# Altium schematic symbol library GBA.SchLib: 53 symbols (part 1 of 2)
Pins are listed as number, name and electrical type; pins without a type are passive.

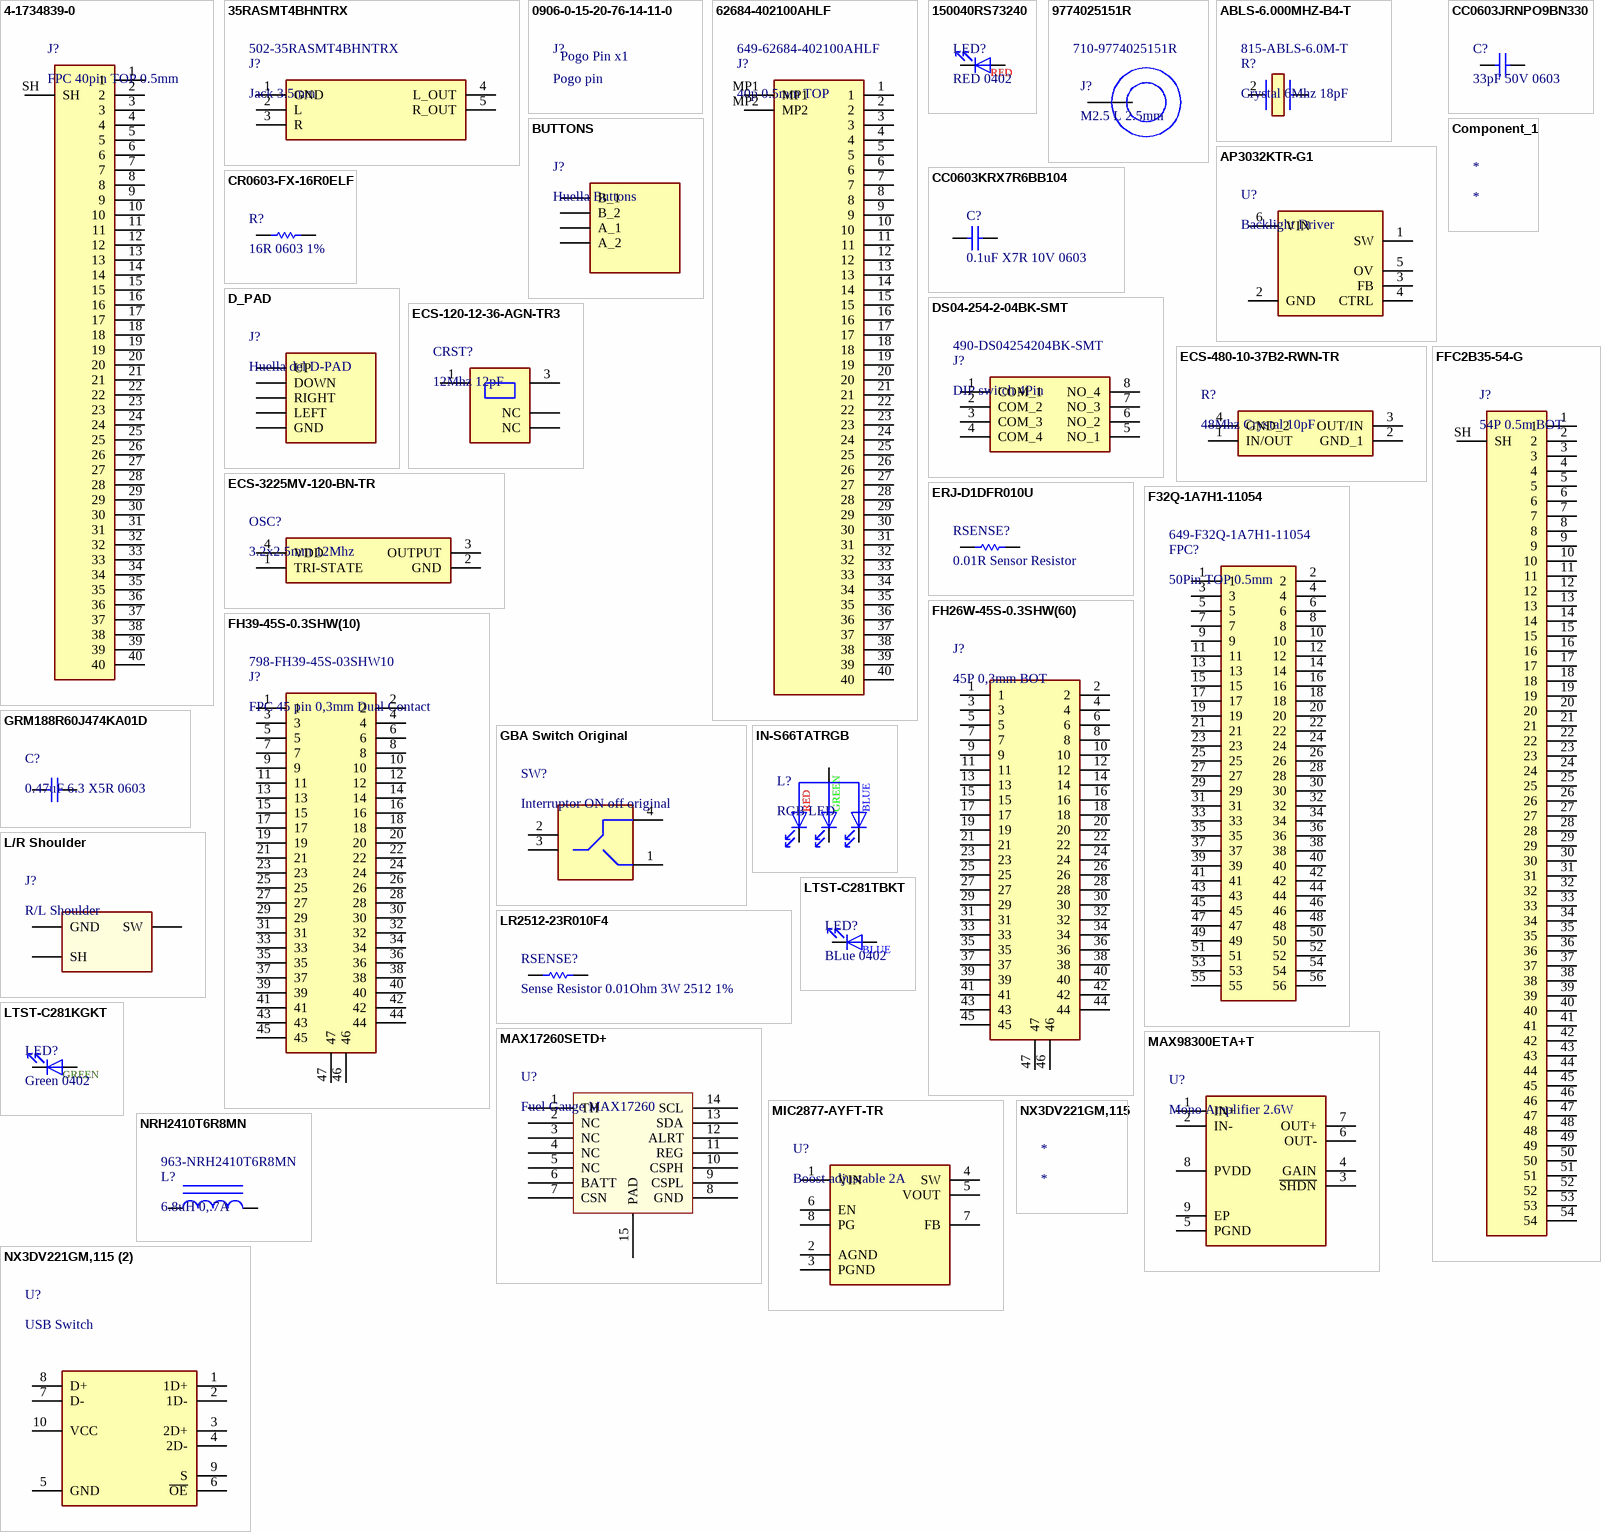
[diagram p0: symbols 4-1734839-0 to NX3DV221GM,115 (2)]

## 4-1734839-0
designator J?, comment FPC 40pin TOP 0.5mm
Conn FPC Connector SKT 40 POS 0.5mm Solder RA SMD Tape Mounted (Alt: 4-1734839-0); Manufacturer: TE Connectivity; Supplier 1: Mouser; Manufacturer Part Number: 4-1734839-0; RoHS: Yes; Category: FFC / FPC; Stock 1: 26676; Pricing 1: 1=1,12000, 10=0,92000, 50=0,92000, 100=0,80300, 500=0,69000, 1000=0,61300, 2000=0,55500, 4000=0,53600, 10000=0,50900, 24000=0,49700 (USD); ComponentLink1URL: https://datasheet.ciiva.com/10365/eng-ds-1-1773440-6-0506-10365785.pdf?src-supplier=Avnet; ComponentLink1Description: https://datasheet.ciiva.com/10365/eng-ds-1-1773440-6-0506-10365785.pdf?src-supplier=Avnet; ComponentLink2URL: https://datasheet.ciiva.com/8066/1652225-8066874.pdf?src-supplier=Element14; ComponentLink2Description: https://datasheet.ciiva.com/8066/1652225-8066874.pdf?src-supplier=Element14; ComponentLink3URL: https://datasheet.ciiva.com/669/eng-cd-1734839-c-c-1734839-669160.pdf?src-supplier=Digi-Key; ComponentLink3Description: https://datasheet.ciiva.com/669/eng-cd-1734839-c-c-1734839-669160.pdf?src-supplier=Digi-Key; ComponentLink4URL: https://datasheet.ciiva.com/669/eng-cd-1734839-c-c-1734839-669161.pdf?src-supplier=Digi-Key; ComponentLink4Description: https://datasheet.ciiva.com/669/eng-cd-1734839-c-c-1734839-669161.pdf?src-supplier=Digi-Key; ComponentLink5URL: https://datasheet.ciiva.com/669/eng-cd-1734839-c-c-1734839-669162.pdf?src-supplier=Digi-Key; ComponentLink5Description: https://datasheet.ciiva.com/669/eng-cd-1734839-c-c-1734839-669162.pdf?src-supplier=Digi-Key; Supplier Part Number 1: 571-4-1734839-0
footprint 4-1734839-0
pins: 1, 2, 3, 4, 5, 6, 7, 8, 9, 10, 11, 12, 13, 14, 15, 16, 17, 18, 19, 20, 21, 22, 23, 24, 25, 26, 27, 28, 29, 30, 31, 32, 33, 34, 35, 36, 37, 38, 39, 40, SH

## 35RASMT4BHNTRX
designator J?, comment Jack 3.5mm  Supplier Part Number 1: 502-35RASMT4BHNTRX
SWC 35RASMT4BHNTRX Connectors > Audio - Video > Jacks (Audio) > 1/4 Audio Jacks; Manufacturer: Switchcraft; Supplier 1: Mouser; Manufacturer Part Number: 35RASMT4BHNTRX; RoHS: Yes; Category: Circular Connectors; Stock 1: 5330; Pricing 1: 1=1,60000, 10=1,31000, 50=1,31000, 100=1,25000, 250=1,13000, 500=1,04000, 1000=0,95900, 10000=0,95900 (USD); ComponentLink1URL: https://datasheet.ciiva.com/390/35rasmt4bhntrx-cd-390487.pdf?src-supplier=Digi-Key; ComponentLink1Description: https://datasheet.ciiva.com/390/35rasmt4bhntrx-cd-390487.pdf?src-supplier=Digi-Key; ComponentLink2URL: https://datasheet.ciiva.com/11720/0900766b80e28029-11720622.pdf?src-supplier=RSComponents; ComponentLink2Description: https://datasheet.ciiva.com/11720/0900766b80e28029-11720622.pdf?src-supplier=RSComponents; ComponentLink3URL: https://datasheet.ciiva.com/390/35rasmt4bhntrx-cd-390488.pdf?src-supplier=Digi-Key; ComponentLink3Description: https://datasheet.ciiva.com/390/35rasmt4bhntrx-cd-390488.pdf?src-supplier=Digi-Key; ComponentLink4URL: https://datasheet.ciiva.com/390/35rasmt4bhntrx-cd-390489.pdf?src-supplier=Digi-Key; ComponentLink4Description: https://datasheet.ciiva.com/390/35rasmt4bhntrx-cd-390489.pdf?src-supplier=Digi-Key
footprint 35RASMT4BHNTRX
pins: 1 GND, 2 L, 3 R, 4 L_OUT, 5 R_OUT

## 0906-0-15-20-76-14-11-0
designator J?, comment Pogo pin  (mechanical)
0906 Series Spring-Loaded Pin Shell Material=Brass Alloy; Manufacturer: Mill-Max; Manufacturer Part Number: 0906-0-15-20-76-14-11-0; Supplier 1: Mouser; RoHS: Yes; Category: Connectors; Stock 1: 63461; Pricing 1: 1=0,56000, 10=0,42300, 50=0,42300, 100=0,37000, 500=0,35200, 1000=0,29000, 2500=0,25500, 10000=0,23400, 30000=0,22800, 50000=0,22000 (USD); ComponentLink1URL: https://datasheet.ciiva.com/16427/0906-0-15-20-76-14-11-0-16427148.pdf?src-supplier=Future+Electronics; ComponentLink1Description: https://datasheet.ciiva.com/16427/0906-0-15-20-76-14-11-0-16427148.pdf?src-supplier=Future+Electronics; ComponentLink2URL: https://datasheet.ciiva.com/16886/70206242-16886092.pdf?src-supplier=Allied+Electronics; ComponentLink2Description: https://datasheet.ciiva.com/16886/70206242-16886092.pdf?src-supplier=Allied+Electronics; Supplier Part Number 1: 575-906015
text: Pogo Pin x1

## 62684-402100AHLF
designator J?, comment 40p 0.5mm TOP  Supplier Part Number 1: 649-62684-402100AHLF
Conn FFC/FPC Connector SKT 40 POS 0.5mm Solder RA SMD T/R; Manufacturer: Amphenol ICC / FCI; Manufacturer Part Number: 62684-402100AHLF; Supplier 1: Mouser; RoHS: Yes; Category: FFC / FPC; Stock 1: 272; Pricing 1: 1=0,68000, 10=0,56600, 50=0,56600, 100=0,48700, 1000=0,34900, 10000=0,30600 (USD); ComponentLink1URL: https://datasheet.ciiva.com/18492/62684-18492024.pdf?src-supplier=Digi-Key; ComponentLink1Description: https://datasheet.ciiva.com/18492/62684-18492024.pdf?src-supplier=Digi-Key; ComponentLink2URL: https://datasheet.ciiva.com/15330/62684-15330505.pdf?src-supplier=Mouser; ComponentLink2Description: https://datasheet.ciiva.com/15330/62684-15330505.pdf?src-supplier=Mouser
footprint 62684402100AHLF
pins: 1, 2, 3, 4, 5, 6, 7, 8, 9, 10, 11, 12, 13, 14, 15, 16, 17, 18, 19, 20, 21, 22, 23, 24, 25, 26, 27, 28, 29, 30, 31, 32, 33, 34, 35, 36, 37, 38, 39, 40, MP1, MP2

## 150040RS73240
designator LED?, comment RED 0402
Led Red Clear 0402 SMD; Manufacturer: Wurth Electronics; Manufacturer Part Number: 150040RS73240; Lens Color: Colorless; Lens Style: Flat; Luminous Intensity: 100mcd; Forward Voltage: 2V; Test Current: 20mA; Viewing Angle: 120°; Dominant Wavelength: 625nm; Lens Size: 0.5mm; Supplier 1: Mouser; RoHS: Yes; Category: LEDs; Stock 1: 82489; Pricing 1: 1=0,32000, 10=0,27100, 50=0,27100, 100=0,24400, 1000=0,19100, 10000=0,16400 (USD); Mount: Surface Mount; Case/Package: 0402; Color: Red; Case Code (Imperial): 0402; Case Code (Metric): 1005; Packaging: Tape and Reel; Lens Transparency: Clear; Length: 1mm; Width: 0.5mm; Height: 0.5mm; RoHS Compliant: Yes; ComponentLink1URL: http://www.farnell.com/datasheets/2621636.pdf?src-supplier=Farnell; ComponentLink1Description: http://www.farnell.com/datasheets/2621636.pdf?src-supplier=Farnell; ComponentLink2URL: http://www.farnell.com/datasheets/2621636.pdf?src-supplier=Element14; ComponentLink2Description: http://www.farnell.com/datasheets/2621636.pdf?src-supplier=Element14; ComponentLink3URL: https://katalog.we-online.de/pbs/datasheet/150040RS73240.pdf?src-supplier=Digi-Key; ComponentLink3Description: https://katalog.we-online.de/pbs/datasheet/150040RS73240.pdf?src-supplier=Digi-Key; ComponentLink4URL: http://www.farnell.com/datasheets/2621636.pdf?src-supplier=Newark; ComponentLink4Description: http://www.farnell.com/datasheets/2621636.pdf?src-supplier=Newark; Supplier Part Number 1: 710-150040RS73240
footprint LED 0402
pins: 1 K, 2 A
text: RED

## 9774025151R
designator J?, comment M2.5 L 2.5mm  Supplier Part Number 1: 710-9774025151R
Spacer Material: Steel Mounting: SMT Series: WA-SMSI Thread D: M2.5; Manufacturer: Wurth Electronics; Manufacturer Part Number: 9774025151R; Plating: Tin; Threaded/Unthreaded: Threaded; Outside Diameter: 0.201inch; Supplier 1: Mouser; RoHS: Yes; Category: Spacers, Standoffs; Stock 1: 24227; Pricing 1: 1=1,27000, 10=1,22000, 50=1,07000, 100=0,97900, 500=0,90700, 1000=0,90700, 10000=0,90700 (USD); Material: Steel; Length: 0.154inch; REACH SVHC: Unknown; ComponentLink1URL: http://www.farnell.com/datasheets/1960364.pdf?src-supplier=Farnell; ComponentLink1Description: http://www.farnell.com/datasheets/1960364.pdf?src-supplier=Farnell; ComponentLink2URL: http://www.mouser.com/ds/2/445/9774025151R-611453.pdf?src-supplier=Mouser; ComponentLink2Description: http://www.mouser.com/ds/2/445/9774025151R-611453.pdf?src-supplier=Mouser; ComponentLink3URL: https://media.digikey.com/pdf/Data%20Sheets/Wurth%20Electronics%20PDFs/WA-SMSx_Performance_Flyer.pdf?src-supplier=Digi-Key; ComponentLink3Description: https://media.digikey.com/pdf/Data%20Sheets/Wurth%20Electronics%20PDFs/WA-SMSx_Performance_Flyer.pdf?src-supplier=Digi-Key; ComponentLink4URL: http://www.farnell.com/datasheets/1960364.pdf?src-supplier=Element14; ComponentLink4Description: http://www.farnell.com/datasheets/1960364.pdf?src-supplier=Element14; ComponentLink5URL: http://www.farnell.com/datasheets/1960364.pdf?src-supplier=Newark; ComponentLink5Description: http://www.farnell.com/datasheets/1960364.pdf?src-supplier=Newark
pins: 1

## ABLS-6.000MHZ-B4-T
designator R?, comment Crystal 6Mhz 18pF  Supplier Part Number 1: 815-ABLS-6.0M-T
Crystal 6MHz ±30ppm (Tol) ±50ppm (Stability) 18pF FUND 100Ohm 2-Pin HC-49/US SMD T/R; Manufacturer: Abracon; Manufacturer Part Number: ABLS-6.000MHZ-B4-T; ESR (Equivalent Series Resistance): 100R; Supplier 1: Mouser; RoHS: Yes; Category: Crystals; Stock 1: 4366; Pricing 1: 1=0,29000, 10=0,23800, 50=0,23800, 100=0,19200, 1000=0,15600, 10000=0,14200 (USD); Mount: Surface Mount; Case/Package: SMD/SMT; Min Operating Temperature: -20°C; Max Operating Temperature: 70°C; Frequency: 6MHz; Load Capacitance: 18pF; Packaging: Tape and Reel; Package Quantity: 1000; Tolerance: 30ppm; Frequency Tolerance: 30ppm; Frequency Stability: 50ppm; Termination: SMD/SMT; Series Resistance: 100R; Length: 11.4mm; Width: 4.7mm; Height: 0.165inch; Depth: 4.7mm; Radiation Hardening: No; REACH SVHC: Yes; Lead Free: Lead Free; ComponentLink1URL: https://datasheet.ciiva.com/15116/getdatasheetpartid-722413-15116851.pdf?src-supplier=Verical; ComponentLink1Description: https://datasheet.ciiva.com/15116/getdatasheetpartid-722413-15116851.pdf?src-supplier=Verical; ComponentLink2URL: https://datasheet.ciiva.com/16378/abls-16378057.pdf?src-supplier=Future+Electronics; ComponentLink2Description: https://datasheet.ciiva.com/16378/abls-16378057.pdf?src-supplier=Future+Electronics; ComponentLink3URL: https://datasheet.ciiva.com/854/abls-854139.pdf?src-supplier=Digi-Key; ComponentLink3Description: https://datasheet.ciiva.com/854/abls-854139.pdf?src-supplier=Digi-Key; ComponentLink4URL: https://datasheet.ciiva.com/854/abls-854140.pdf?src-supplier=Digi-Key; ComponentLink4Description: https://datasheet.ciiva.com/854/abls-854140.pdf?src-supplier=Digi-Key; ComponentLink5URL: https://datasheet.ciiva.com/854/abls-854138.pdf?src-supplier=Digi-Key; ComponentLink5Description: https://datasheet.ciiva.com/854/abls-854138.pdf?src-supplier=Digi-Key; ComponentLink6URL: https://datasheet.ciiva.com/3175/abls-3175436.pdf?src-supplier=Avnet; ComponentLink6Description: https://datasheet.ciiva.com/3175/abls-3175436.pdf?src-supplier=Avnet
footprint ABLS6000MHZB4T
pins: 2 CRYSTAL_2, ?1

## AP3032KTR-G1
designator U?, comment Backlight Driver
AP3032 Series 9 V 1.3 MHz Surface Mount White LED Step-Up Converter - SOT-23-6; Manufacturer: Diodes; Manufacturer Part Number: AP3032KTR-G1; Number of Outputs: 1; Frequency: 1MHz; Max Supply Voltage: 9V; Output Current per Channel: 1.4A; Min Input Voltage: 2.7V; Max Output Voltage: 38V; Switching Frequency: 750kHz; Topology: Boost; Dimming: PWM; Supplier 1: Mouser; RoHS: Yes; Category: LED Drivers; Stock 1: 35875; Pricing 1: 1=0,41000, 10=0,33600, 50=0,33600, 100=0,20700, 500=0,17200, 1000=0,12900, 3000=0,11700, 9000=0,10300, 10000=0,10300, 24000=0,09700 (USD); Mount: Surface Mount; Case/Package: SOT-23-6; Number of Pins: 6; Weight: 0.000529oz; Min Operating Temperature: -40°C; Max Operating Temperature: 85°C; Package Quantity: 3000; Packaging: Tape and Reel; Max Input Voltage: 9V; Number of Channels: 1; Lead Free: Lead Free; RoHS Compliant: Yes; ComponentLink1URL: https://datasheet.ciiva.com/29602/ap3032-29602682.pdf?src-supplier=Digi-Key; ComponentLink1Description: https://datasheet.ciiva.com/29602/ap3032-29602682.pdf?src-supplier=Digi-Key; ComponentLink2URL: https://datasheet.ciiva.com/29603/ap3032-29603101.pdf?src-supplier=Digi-Key; ComponentLink2Description: https://datasheet.ciiva.com/29603/ap3032-29603101.pdf?src-supplier=Digi-Key; ComponentLink3URL: https://datasheet.ciiva.com/29603/ap3032-29603100.pdf?src-supplier=Digi-Key; ComponentLink3Description: https://datasheet.ciiva.com/29603/ap3032-29603100.pdf?src-supplier=Digi-Key; Supplier Part Number 1: 621-AP3032KTR-G1
footprint SOT95P280X145-6N
pins: 1 SW, 2 GND, 3 FB, 4 CTRL, 5 OV, 6 VIN

## BUTTONS
designator J?, comment Huella Buttons  (no BOM)
footprint AB_BUTTON
pins: A_1, A_2, B_1, B_2

## CC0603JRNPO9BN330
designator C?, comment 33pF 50V 0603
0603 33 pF 50 V ±5 % Tolerance NP0 SMT Multilayer Ceramic Capacitor; Manufacturer: Yageo; Manufacturer Part Number: CC0603JRNPO9BN330; Tolerance: 5%; Dielectric: C0G; Temperature Coefficient: 30ppm/°C; Insulation Resistance: 100GR; Supplier 1: Mouser; RoHS: Yes; Category: Ceramic Capacitors; Stock 1: 62339; Pricing 1: 1=0,10000, 10=0,02400, 50=0,02400, 100=0,01900, 500=0,01700, 1000=0,01300, 4000=0,01000, 10000=0,01000 (USD); Mount: Surface Mount; Case/Package: 0603; Number of Pins: 2; Case Code (Metric): 1608; Case Code (Imperial): 0603; Dielectric Material: Ceramic; Min Operating Temperature: -55°C; Max Operating Temperature: 125°C; Capacitance: 33pF; Packaging: Tape and Reel; Voltage Rating: 50V; Package Quantity: 1; Voltage Rating (DC): 50V; Termination: SMD/SMT; Resistor Type: Ceramic; Voltage: 50V; Series: CC; Length: 1.6mm; Width: 0.031inch; Height: 0.8mm; Thickness: 0.035inch; Depth: 0.8mm; Radiation Hardening: No; REACH SVHC: No SVHC; Lead Free: Lead Free; RoHS Compliant: Yes; ComponentLink1URL: https://datasheet.ciiva.com/11786/0900766b8079c870-11786082.pdf?src-supplier=RSComponents; ComponentLink1Description: https://datasheet.ciiva.com/11786/0900766b8079c870-11786082.pdf?src-supplier=RSComponents; ComponentLink2URL: https://datasheet.ciiva.com/26862/getdatasheetpartid-403532-26862767.pdf?src-supplier=Verical; ComponentLink2Description: https://datasheet.ciiva.com/26862/getdatasheetpartid-403532-26862767.pdf?src-supplier=Verical; ComponentLink3URL: https://datasheet.ciiva.com/8033/1443161-8033735.pdf?src-supplier=Element14; ComponentLink3Description: https://datasheet.ciiva.com/8033/1443161-8033735.pdf?src-supplier=Element14; ComponentLink4URL: https://datasheet.ciiva.com/7978/1443161-7978142.pdf?src-supplier=Element14; ComponentLink4Description: https://datasheet.ciiva.com/7978/1443161-7978142.pdf?src-supplier=Element14; ComponentLink5URL: https://datasheet.ciiva.com/46430/1835847-46430155.pdf?src-supplier=Element14; ComponentLink5Description: https://datasheet.ciiva.com/46430/1835847-46430155.pdf?src-supplier=Element14; ComponentLink6URL: https://datasheet.ciiva.com/144/mlccorderingcode-144644.pdf?src-supplier=Digi-Key; ComponentLink6Description: https://datasheet.ciiva.com/144/mlccorderingcode-144644.pdf?src-supplier=Digi-Key; ComponentLink7URL: https://datasheet.ciiva.com/144/mlccorderingcode-144643.pdf?src-supplier=Digi-Key; ComponentLink7Description: https://datasheet.ciiva.com/144/mlccorderingcode-144643.pdf?src-supplier=Digi-Key; ComponentLink8URL: https://datasheet.ciiva.com/144/mlccorderingcode-144645.pdf?src-supplier=Digi-Key; ComponentLink8Description: https://datasheet.ciiva.com/144/mlccorderingcode-144645.pdf?src-supplier=Digi-Key; ComponentLink9URL: https://datasheet.ciiva.com/5426/upy-gp-np0-16v-to-50v-8-5426614.pdf?src-supplier=Mouser; ComponentLink9Description: https://datasheet.ciiva.com/5426/upy-gp-np0-16v-to-50v-8-5426614.pdf?src-supplier=Mouser; ComponentLink10URL: https://datasheet.ciiva.com/8033/1372269-8033734.pdf?src-supplier=Element14; ComponentLink10Description: https://datasheet.ciiva.com/8033/1372269-8033734.pdf?src-supplier=Element14; ComponentLink11URL: https://datasheet.ciiva.com/11464/upy-gp-np0-16v-to-50v-8-11464730.pdf?src-supplier=Avnet; ComponentLink11Description: https://datasheet.ciiva.com/11464/upy-gp-np0-16v-to-50v-8-11464730.pdf?src-supplier=Avnet; Supplier Part Number 1: 603-C0603JRNPO9BN330
footprint C 0603/1608
pins: 1, 2

## CC0603KRX7R6BB104
designator C?, comment 0.1uF X7R 10V 0603
Multilayer Ceramic Capacitors MLCC - SMD/SMT 100nF 10V X7R 10%; Manufacturer: Yageo; Manufacturer Part Number: CC0603KRX7R6BB104; Supplier 1: Mouser; Stock 1: 15698; Pricing 1: 1=0.12, 10=0.06, 50=0.06, 100=0.027, 1000=0.022, 10000=0.016 (USD); Mount: Surface Mount; Case/Package: 0603; Weight: 7.1E-05oz; Case Code (Imperial): 0603; Case Code (Metric): 1608; Min Operating Temperature: -55°C; Max Operating Temperature: 125°C; Capacitance: 100nF; Tolerance: 10%; Dielectric: X7R; Voltage Rating: 10V; Voltage Rating (DC): 10V; Packaging: Tape and Reel; Termination: SMD/SMT; Composition: Ceramic; Length: 1.6mm; Height: 0.8mm; Width: 0.8mm; Thickness: 0.035inch; Depth: 0.8mm; Radiation Hardening: No; Lead Free: Lead Free; Halogen Free: Halogen Free; ComponentLink1URL: http://www.yageo.com/documents/recent/UPY-GPHC_X7R_6.3V-to-50V_8.pdf; ComponentLink1Description: http://www.yageo.com/documents/recent/UPY-GPHC_X7R_6.3V-to-50V_8.pdf; Supplier Part Number 1: 603-CC603KRX7R6BB104
footprint C 0603/1608
pins: 1, 2

## Component_1
designator *

## CR0603-FX-16R0ELF
designator R?, comment 16R 0603 1%
Res Thick Film 0603 16 Ohm 1% 1/10W ±100ppm/°C Molded SMD SMD Paper Tape on Plastic Reel; Manufacturer: Bourns; Manufacturer Part Number: CR0603-FX-16R0ELF; Power Rating: 100mW; Voltage Rating: 50V; Supplier 1: Mouser; RoHS: Yes; Category: Chip SMD Resistors; Stock 1: 13336; Pricing 1: 1=0,10000, 10=0,03400, 50=0,03400, 100=0,01400, 1000=0,00700, 10000=0,00400 (USD); Mount: Surface Mount; Case/Package: 0603; Case Code (Imperial): 0603; Case Code (Metric): 1608; Contact Plating: Tin; Min Operating Temperature: -55°C; Max Operating Temperature: 155°C; Packaging: Tape and Reel; Package Quantity: 5000; Resistance: 16R; Tolerance: 1%; Resistor Type: Thick Film; Termination: SMD/SMT; Number of Terminations: 2; Temperature Coefficient: 100ppm/°C; Max Power Dissipation: 100mW; Features: Moisture Resistant; Series: CR0603; Construction: Rectangular; Length: 1.6mm; Width: 0.8mm; Height: 0.022inch; Depth: 0.8mm; Thickness: 457um; Radiation Hardening: No; Military Standard: Not; RoHS Compliant: Yes; ComponentLink1URL: https://datasheet.ciiva.com/9122/chpreztr-9122055.pdf?src-supplier=Avnet; ComponentLink1Description: https://datasheet.ciiva.com/9122/chpreztr-9122055.pdf?src-supplier=Avnet; Supplier Part Number 1: 652-CR0603FX-16R0ELF
footprint R 0603/1608
pins: 1, 2

## D_PAD
designator J?, comment Huella del D-PAD  (no BOM)
footprint D-PAD
pins: DOWN, GND, LEFT, RIGHT, UP

## DS04-254-2-04BK-SMT
designator J?, comment DIP switch 4Pin  Supplier Part Number 1: 490-DS04254204BK-SMT
Switch DIP OFF ON SPST 4 Flat Slide 0.025A 24VDC Gull Wing 2.54mm SMD Tube; Manufacturer: CUI Devices; Manufacturer Part Number: DS04-254-2-04BK-SMT; Supplier 1: Mouser; RoHS: Yes; Category: DIP Switches; Stock 1: 3281; Pricing 1: 1=0,61000, 10=0,58400, 50=0,49600, 100=0,49600, 1000=0,36700, 10000=0,32200 (USD)
footprint SOP254P990X430-8N
pins: 1 COM_1, 2 COM_2, 3 COM_3, 4 COM_4, 5 NO_1, 6 NO_2, 7 NO_3, 8 NO_4

## ECS-120-12-36-AGN-TR3
designator CRST?, comment 12Mhz 12pF
Crystal 12.0000MHZ 12PF SMD; Manufacturer: ECS International; Manufacturer Part Number: ECS-120-12-36-AGN-TR3; Supplier 1: Mouser; RoHS: No; Category: Uncategorized; Stock 1: 18886; Pricing 1: 1=0,37000, 10=0,31300, 50=0,31300, 100=0,25000, 1000=0,20000, 10000=0,18100 (USD); Supplier Part Number 1: 520-120-12-36AGN-TR3
footprint SMD 2.5x2mm Crystal
pins: 1, 2 NC, 3, 4 NC

## ECS-480-10-37B2-RWN-TR
designator R?, comment 48Mhz Crystal 10pF
Crystal 48 Mhz 10PF SMD; Manufacturer: ECS International; Manufacturer Part Number: ECS-480-10-37B2-RWN-TR; Supplier 1: Mouser; RoHS: No; Category: Uncategorized; Stock 1: 8707; Pricing 1: 1=0,45000, 10=0,37500, 50=0,37500, 100=0,30000, 500=0,28500, 1000=0,24000, 3000=0,22400, 6000=0,21700, 10000=0,21700 (USD); Supplier Part Number 1: 520-480-10-37B2RWNTR
footprint ECS4801037B2RWNTR (Footprint not found)
pins: 1 IN/OUT, 2 GND_1, 3 OUT/IN, 4 GND_2

## ECS-3225MV-120-BN-TR
designator OSC?, comment 3.2x2.5mm 12Mhz
Oscillator XO 12MHz ±50ppm 15pF HCMOS 55% 1.8V/2.5V/3.3V 4-Pin Mini-CSMD T/R; Manufacturer: ECS International; Manufacturer Part Number: ECS-3225MV-120-BN-TR; Max Supply Current: 4mA; Supplier 1: Mouser; RoHS: Yes; Category: Oscillators; Stock 1: 3580; Pricing 1: 1=1,21, 10=0,999, 50=0,999, 100=0,883, 1000=0,688, 10000=0,627 (USD); Mount: Surface Mount; Case/Package: SMD/SMT; Min Operating Temperature: -40°C; Max Operating Temperature: 85°C; Packaging: Cut Tape; Frequency: 12MHz; Frequency Stability: 50ppm; Series: ECS-3225MV; ComponentLink1URL: https://www.ecsxtal.com/store/pdf/ECS-3225MV.pdf?src-supplier=Digi-Key; ComponentLink1Description: https://www.ecsxtal.com/store/pdf/ECS-3225MV.pdf?src-supplier=Digi-Key; Supplier Part Number 1: 520-3225MV-120-BNT
footprint ECS3225MV120BNTR
pins: 1 TRI-STATE, 2 GND, 3 OUTPUT, 4 VDD

## ERJ-D1DFR010U
designator RSENSE?, comment 0.01R Sensor Resistor
Res Thick Film 1020 0.01 Ohm 1% 2W ±100ppm/°C Wide Terminal SMD Automotive T/R; Manufacturer: Panasonic; Manufacturer Part Number: ERJ-D1DFR010U; Supplier 1: Mouser; RoHS: No; Category: Chip SMD Resistors; Stock 1: 6843; Pricing 1: 1=0,86000, 10=0,75700, 50=0,75700, 100=0,49500, 1000=0,37700, 10000=0,35400 (USD); Supplier Part Number 1: 667-ERJ-D1DFR010U
footprint ERJD1
pins: 1, 2

## F32Q-1A7H1-11054
designator FPC?, comment 50Pin TOP 0.5mm  Supplier Part Number 1: 649-F32Q-1A7H1-11054
FPC/FFC Connector Socket 54 Position 0.5mm Top Contact Solder Right Angle Surface Mount T/R; Manufacturer: Amphenol ICC / FCI; Manufacturer Part Number: F32Q-1A7H1-11054; Supplier 1: Mouser; RoHS: No; Category: FFC / FPC; Stock 1: 5116; Pricing 1: 1=1,34, 10=1,06, 50=1,06, 100=0,919, 1000=0,627, 10000=0,597 (USD)
footprint XF2M54151AH
pins: 1, 2, 3, 4, 5, 6, 7, 8, 9, 10, 11, 12, 13, 14, 15, 16, 17, 18, 19, 20, 21, 22, 23, 24, 25, 26, 27, 28, 29, 30, 31, 32, 33, 34, 35, 36, 37, 38, 39, 40, 41, 42, 43, 44, 45, 46, 47, 48, 49, 50, 51, 52, 53, 54, 55, 56

## FFC2B35-54-G
designator J?, comment 54P 0.5m BOT
54W, 0.5MM Ffc Con, R/a, Bottom Con; Manufacturer: Global Connector Technology; Manufacturer Part Number: FFC2B35-54-G; Supplier 1: Mouser; RoHS: No; Supplier Part Number 1: 640-FFC2B35-54-G
footprint FFC2B35-54-G
pins: 1, 2, 3, 4, 5, 6, 7, 8, 9, 10, 11, 12, 13, 14, 15, 16, 17, 18, 19, 20, 21, 22, 23, 24, 25, 26, 27, 28, 29, 30, 31, 32, 33, 34, 35, 36, 37, 38, 39, 40, 41, 42, 43, 44, 45, 46, 47, 48, 49, 50, 51, 52, 53, 54, SH

## FH26W-45S-0.3SHW(60)
designator J?, comment 45P 0,3mm BOT
FFC FPC Connectors Horizontal Mounting Angle Light Brown 0.3 mm - Pitch 45 Positions; Manufacturer: Hirose; Manufacturer Part Number: FH26W-45S-0.3SHW(60); Supplier 1: Mouser; RoHS: Yes; Category: FFC / FPC; Stock 1: 44650; Pricing 1: 1=2,29000, 10=1,92000, 50=1,92000, 100=1,79000, 1000=1,28000, 10000=1,13000 (USD); ComponentLink1URL: http://www.farnell.com/datasheets/2691081.pdf?src-supplier=Farnell; ComponentLink1Description: http://www.farnell.com/datasheets/2691081.pdf?src-supplier=Farnell; ComponentLink2URL: https://www.hirose.com/product/document?clcode=CL0580-2401-1-60&amp;productname=FH26W-13S-0.3SHW(60)&amp;series=FH26&amp;documenttype=Catalog&amp;lang=en&amp;documentid=D49355_en&src-supplier=Digi-Key; ComponentLink2Description: https://www.hirose.com/product/document?clcode=CL0580-2401-1-60&amp;productname=FH26W-13S-0.3SHW(60)&amp;series=FH26&amp;documenttype=Catalog&amp;lang=en&amp;documentid=D49355_en&src-supplier=Digi-Key; ComponentLink3URL: https://www.hirose.com/product/en/download_file/key_name/FH26W-61S-0.3SHW%2860%29/category/Drawing%20(2D)/doc_file_id/43329/?file_category_id=6&item_id=05802418460&is_series=&src-supplier=Digi-Key; ComponentLink3Description: https://www.hirose.com/product/en/download_file/key_name/FH26W-61S-0.3SHW%2860%29/category/Drawing%20(2D)/doc_file_id/43329/?file_category_id=6&item_id=05802418460&is_series=&src-supplier=Digi-Key; ComponentLink4URL: https://www.hirose.com/product/en/download_file/key_name/FH26/category/Catalog/doc_file_id/49355/?file_category_id=4&item_id=298&is_series=1&src-supplier=Digi-Key; ComponentLink4Description: https://www.hirose.com/product/en/download_file/key_name/FH26/category/Catalog/doc_file_id/49355/?file_category_id=4&item_id=298&is_series=1&src-supplier=Digi-Key; Supplier Part Number 1: 798-FH26W45S03SHW60
footprint FH26W45S03SHW60 (Footprint not found)
pins: 1, 2, 3, 4, 5, 6, 7, 8, 9, 10, 11, 12, 13, 14, 15, 16, 17, 18, 19, 20, 21, 22, 23, 24, 25, 26, 27, 28, 29, 30, 31, 32, 33, 34, 35, 36, 37, 38, 39, 40, 41, 42, 43, 44, 45, 46, 47

## FH39-45S-0.3SHW(10)
designator J?, comment FPC 45 pin 0,3mm Dual Contact  Supplier Part Number 1: 798-FH39-45S-03SHW10
FFC FPC Connectors Horizontal Mounting Angle Beige 0.3 mm - Pitch 45 Positions; Manufacturer: Hirose; Manufacturer Part Number: FH39-45S-0.3SHW(10); Supplier 1: Mouser; RoHS: Yes; Category: FFC / FPC; Stock 1: 11777; Pricing 1: 1=2,46000, 10=2,05000, 50=2,05000, 100=1,92000, 250=1,73000, 500=1,60000, 1000=1,37000, 2500=1,28000, 5000=1,21000, 10000=1,18000 (USD); ComponentLink1URL: https://datasheet.ciiva.com/5138/e58018001-27728-5138044.pdf?src-supplier=Mouser; ComponentLink1Description: https://datasheet.ciiva.com/5138/e58018001-27728-5138044.pdf?src-supplier=Mouser
footprint FH3945S03SHW10
pins: 1, 2, 3, 4, 5, 6, 7, 8, 9, 10, 11, 12, 13, 14, 15, 16, 17, 18, 19, 20, 21, 22, 23, 24, 25, 26, 27, 28, 29, 30, 31, 32, 33, 34, 35, 36, 37, 38, 39, 40, 41, 42, 43, 44, 45, 46, 47

## GBA Switch Original
designator SW?, comment Interruptor ON off original
Interruptor Original On OFF
footprint SWITCH_ORIGINAL
pins: 1, 2, 3, 4

## GRM188R60J474KA01D
designator C?, comment 0.47uF 6.3 X5R 0603
CAP CER 0.47UF 6.3V X5R 0603; Manufacturer: Murata Electronics North America; Manufacturer Part Number: GRM188R60J474KA01D; Tolerance: ±10%; Notification: Current market demand for these product types have resulted in fluctuating and extending lead times. Lead times may differ.; Supplier 1: Digi-Key; RoHS: RoHS Compliant; Category: Capacitors; Stock 1: 40000; Pricing 1: 1=0.13, 10=0.092, 100=0.0467, 500=0.032, 1000=0.0283 (GBP); Packaging: Cut Tape (CT); Part Status: Not For New Designs; Voltage - Rated: 6.3V; Temperature Coefficient: X5R; Operating Temperature: -55°C ~ 85°C; Features: -; Ratings: -; Applications: General Purpose; Mounting Type: Surface Mount, MLCC; Package / Case: 0603 (1608 Metric); Size / Dimension: 0.063" L x 0.031" W (1.60mm x 0.80mm); Height - Seated (Max): -; Thickness (Max): 0.035" (0.90mm); Lead Spacing: -; Lead Style: -; ComponentLink1URL: https://www.murata.com/~/media/webrenewal/support/library/catalog/products/capacitor/mlcc/c02e.ashx?la=en-us; ComponentLink1Description: https://www.murata.com/~/media/webrenewal/support/library/catalog/products/capacitor/mlcc/c02e.ashx?la=en-us; Supplier Part Number 1: 490-1548-1-ND
footprint C 0603/1608
pins: 1, 2

## IN-S66TATRGB
designator L?, comment RGB LED
LED Tri-Color Blue/Green/Red 470nm/530nm/630nm Automotive 4-Pin SMD T/R; Manufacturer: Inolux; Manufacturer Part Number: IN-S66TATRGB; Color: Blue,Green,Red; Lens Color: Clear; Lens Style: Flat; Element Configuration: Common Anode; Luminous Intensity: 110mcd; Forward Voltage: 3.2V; Test Current: 20mA; Viewing Angle: 120°; Dominant Wavelength: 468nm; Lens Size: 1.15mm; Supplier 1: Mouser; RoHS: No; Category: LEDs; Stock 1: 12490; Pricing 1: 1=0,42000, 10=0,26300, 50=0,26300, 100=0,15400, 1000=0,12100, 10000=0,09600 (USD); Mount: Surface Mount; Case/Package: 0606; Case Code (Imperial): 0606; Case Code (Metric): 1616; Packaging: Cut Tape; Lens Transparency: Clear; Length: 1.6mm; Width: 1.5mm; Height: 0.55mm; ComponentLink1URL: http://www.inolux-corp.com/datasheet/SMDLED/RGB%20Top%20View/IN-S66TATRGB_V1.0.pdf?src-supplier=Digi-Key; ComponentLink1Description: http://www.inolux-corp.com/datasheet/SMDLED/RGB%20Top%20View/IN-S66TATRGB_V1.0.pdf?src-supplier=Digi-Key; Supplier Part Number 1: 743-IN-S66TATRGB
footprint IN-S66TATRGB
pins: 1 K, 2 K, 3 A, 4 K
text: RED; GREEN; BLUE

## L/R Shoulder
designator J?, comment R/L Shoulder
Buy on Aliexpress
footprint SHOULDER_BUTTON
pins: GND, SH, SW

## LR2512-23R010F4
designator RSENSE?, comment Sense Resistor 0.01Ohm 3W 2512 1%
Low Resistors & Current Sense Resistors - Surface Mount 0.01Ohms ±1% 3W 2512 RoHS
footprint R2512
pins: 1, 2

## LTST-C281KGKT
designator LED?, comment Green 0402
Green 0603 130° Water Clear 35 mcd 2.4 V Surface Mount LED Chip; Manufacturer: Vishay Lite-On; Manufacturer Part Number: LTST-C281KGKT; Lens Color: Colorless; Power Rating: 75mW; Luminous Intensity: 35mcd; Forward Current: 20mA; Forward Voltage: 2V; Lens Style: Diffused,Colorless,Clear,Rectangular; Dominant Wavelength: 571nm; Number of Elements: 1; Reverse Voltage: 5V; Supplier 1: Mouser; RoHS: Yes; Category: LEDs; Stock 1: 168688; Pricing 1: 1=0,31000, 10=0,24500, 50=0,24500, 100=0,11100, 500=0,10000, 1000=0,08200, 5000=0,07100, 10000=0,05600, 25000=0,05300, 50000=0,04700 (USD); Mount: Surface Mount; Case/Package: SMD/SMT; Number of Pins: 2; Color: Green; Min Operating Temperature: -30°C; Max Operating Temperature: 85°C; Packaging: Tape and Reel; Viewing Angle: 130°; Package Quantity: 3000; Illumination Color: Green; Lens Transparency: Clear; Test Current: 20mA; Power Dissipation: 75mW; Number of LEDs: 1; Series: -; Length: 1mm; Width: 0.5mm; Height: 0.35mm; Depth: 0.5mm; Lead Free: Lead Free; RoHS Compliant: Yes; ComponentLink1URL: https://datasheet.ciiva.com/4269/dwonloadfilehandler-ashxtxtspecnods22-2008-0170-4269603.pdf?src-supplier=Arrow+Electronics; ComponentLink1Description: https://datasheet.ciiva.com/4269/dwonloadfilehandler-ashxtxtspecnods22-2008-0170-4269603.pdf?src-supplier=Arrow+Electronics; ComponentLink2URL: https://datasheet.ciiva.com/2958/s-110-ltst-c281kgkt-2958301.pdf?src-supplier=Digi-Key; ComponentLink2Description: https://datasheet.ciiva.com/2958/s-110-ltst-c281kgkt-2958301.pdf?src-supplier=Digi-Key; Supplier Part Number 1: 859-LTST-C281KGKT
footprint LED 0402
pins: 1 K, 2 A
text: GREEN

## LTST-C281TBKT
designator LED?, comment BLue 0402
0402 Blue Color Surface Mount LED With Water Clear Lens; Manufacturer: Vishay Lite-On; Manufacturer Part Number: LTST-C281TBKT; Lens Color: Colorless; Forward Voltage: 2.9V; Viewing Angle: 130°; Test Current: 5mA; Dominant Wavelength: 473nm; Luminous Intensity: 28mcd; Supplier 1: Mouser; RoHS: Yes; Category: LEDs; Stock 1: 18533; Pricing 1: 1=0,39000, 10=0,30600, 50=0,30600, 100=0,13800, 500=0,12500, 1000=0,10300, 5000=0,08800, 10000=0,07100, 25000=0,06600, 50000=0,05900 (USD); Mount: Surface Mount; Case/Package: 0402; Color: Blue; Case Code (Metric): 1005; Case Code (Imperial): 0402; Min Operating Temperature: -20°C; Max Operating Temperature: 80°C; Lens Style: Clear; Lens Transparency: Clear; Package Quantity: 3000; Illumination Color: Blue; Forward Current: 5mA; Packaging: Tape and Reel; Length: 1mm; Width: 0.5mm; Height: 0.35mm; Lead Free: Lead Free; ComponentLink1URL: http://optoelectronics.liteon.com/UpLoad/file/2009%20ShortForm%20-%20SMD%20LED%20(P022-P048).pdf?src-supplier=Future+Electronics; ComponentLink1Description: http://optoelectronics.liteon.com/UpLoad/file/2009%20ShortForm%20-%20SMD%20LED%20(P022-P048).pdf?src-supplier=Future+Electronics; Supplier Part Number 1: 859-LTST-C281TBKT
footprint LED 0402
pins: 1 K, 2 A
text: BLUE

## MAX17260SETD+
designator U?, comment Fuel Gauge MAX17260
Gestión de baterías 5.1 A 1-Cell Fuel Gauge with ModelGauge m5 EZ and Optional High-SideCurrent Sensing; Manufacturer: Maxim Integrated; Manufacturer Part Number: MAX17260SETD+; Empaquetado / Estuche: TDFN-EP-14; Producto: Fuel Gauges; Estilo de montaje: SMD/SMT; Tipo de batería: Li+, LiFePO4; CNHTS: 8542319000; Kit de desarrollo: MAX17260XEVKIT#; Temperatura operativa máxima: + 85 C; Temperatura operativa mínima: - 40 C; Corriente de suministro operativa: 15 uA; Voltaje operativo de suministro: 2.3 V to 4.9 V; Tipo de producto: Battery Management; Cantidad estándar de paquetes: 100; Subcategoría: PMIC - Power Management ICs; Product Status: New Product; Supplier 1: Mouser; RoHS: RoHS Compliant; Category: Gestión de baterías; Stock 1: 287; Pricing 1: 1=1.96, 25=1.34, 50=1.09, 250=1.07, 1000=1.01 (EUR); Serie: MAX17260; Marca: Maxim Integrated; HTS Code: 8542390001; Fabricante: Maxim Integrated; RoHS - Mouser: Y; Minimum Order Quantity: 1; Reeling: False; ComponentLink1URL: http://www.mouser.com/datasheet/2/256/MAX17260-1369516.pdf; ComponentLink1Description: http://www.mouser.com/datasheet/2/256/MAX17260-1369516.pdf; Supplier Part Number 1: 700-MAX17260SETD+
footprint TDFN14-1.7X2.3MM (T1433+2C Maxim code)
pins: 1 TH, 2 NC, 3 NC, 4 NC, 5 NC, 6 BATT, 7 CSN, 8 GND, 9 CSPL, 10 CSPH, 11 REG, 12 ALRT, 13 SDA, 14 SCL, 15 PAD

## MAX98300ETA+T
designator U?, comment Mono Amplifier 2.6W
MAX98300 Series 5.5 V 2.6 W Class D Mono Surface Mount Audio Amplifier - TDFN-8; Manufacturer: Maxim; Manufacturer Part Number: MAX98300ETA+T; Voltage Gain: 12dB; Min Supply Voltage: 2.6V; Max Supply Voltage: 5.5V; Common Mode Rejection Ratio: 50dB; Max Power Dissipation: 953.5mW; Nominal Supply Current: 2mA; Power Supply Rejection Ratio (PSRR): 70dB; Number of Channels: 1; Max Output Current: 600mA; Load Impedance: 4R; Supplier 1: Mouser; RoHS: Yes; Category: Amplifiers - Audio; Stock 1: 8609; Pricing 1: 1=1,59000, 10=1,44000, 25=1,35000, 50=1,35000, 100=1,16000, 250=1,08000, 500=0,94500, 1000=0,81000, 10000=0,78200 (USD); Mount: Surface Mount; Number of Pins: 8; Contact Plating: Tin,Matte; Min Operating Temperature: -40°C; Max Operating Temperature: 85°C; Package Quantity: 2500; Packaging: Tape and Reel; Output Power: 2.6W; Max Output Power: 2.6W; Series: -; Supply Current: 2mA; Radiation Hardening: No; REACH SVHC: Unknown; RoHS Compliant: Yes; ComponentLink1URL: https://datasheet.ciiva.com/29639/max98300-29639253.pdf?src-supplier=Digi-Key; ComponentLink1Description: https://datasheet.ciiva.com/29639/max98300-29639253.pdf?src-supplier=Digi-Key; ComponentLink2URL: https://datasheet.ciiva.com/2968/max98300-2968003.pdf?src-supplier=Avnet; ComponentLink2Description: https://datasheet.ciiva.com/2968/max98300-2968003.pdf?src-supplier=Avnet; Supplier Part Number 1: 700-MAX98300ETA+T
footprint SON50P200X200X80-9N-D
pins: 1 IN+, 2 IN-, 3 ~{SHDN}, 4 GAIN, 5 PGND, 6 OUT-, 7 OUT+, 8 PVDD, 9 EP

## MIC2877-AYFT-TR
designator U?, comment Boost adjustable 2A
Conv DC-DC 2.5V to 5.5V Synchronous Step Up Single-Out 2.5V to 5.5V 2A 8-Pin FTQFN T/R; Manufacturer: Microchip; Manufacturer Part Number: MIC2877-AYFT-TR; Supplier 1: Mouser; RoHS: Yes; Category: Voltage Regulators - Switching; Stock 1: 4903; Pricing 1: 1=1,17000, 10=1,17000, 50=0,98600, 100=0,90000, 1000=0,90000, 10000=0,89900 (USD); Mount: Surface Mount; Number of Pins: 8; Packaging: Tape and Reel; RoHS Compliant: Yes; ComponentLink1URL: http://www.microchip.com/mymicrochip/filehandler.aspx?ddocname=en601345&src-supplier=Digi-Key; ComponentLink1Description: http://www.microchip.com/mymicrochip/filehandler.aspx?ddocname=en601345&src-supplier=Digi-Key; Supplier Part Number 1: 579-MIC2877-AYFT-TR
footprint MIC2877AYFTTR
pins: 1 VIN, 2 AGND, 3 PGND, 4 SW, 5 VOUT, 6 EN, 7 FB, 8 PG

## NRH2410T6R8MN
designator L?, comment 6.8uH 0,.7A  Supplier Part Number 1: 963-NRH2410T6R8MN
Inductor Power Shielded Wirewound 6.8uH 20% 100KHz Ferrite 0.57A 0.492Ohm DCR T/R; Manufacturer: Taiyo Yuden; Manufacturer Part Number: NRH2410T6R8MN; Current Rating: 570mA; Saturation Current: 750mA; Self Resonant Frequency: 43MHz; DC Resistance (DCR): 492mR; Supplier 1: Mouser; RoHS: Yes; Category: Fixed Inductors; Stock 1: 34335; Pricing 1: 1=0,23000, 10=0,15400, 50=0,15400, 100=0,12400, 1000=0,09100, 10000=0,06800 (USD); Mount: Surface Mount; Case/Package: Nonstandard; Number of Pins: 2; Core Material: Ferrite; Min Operating Temperature: -25°C; Max Operating Temperature: 120°C; Tolerance: 20%; Shielding: Shielded; Packaging: Tape and Reel; Inductance: 6.8uH; Resistor Type: Wirewound; Test Frequency: 100kHz; Package Quantity: 2500; Inductance Tolerance: 20%; Max DC Current: 750mA; Termination: SMD/SMT; Series: NRH; Length: 2.4mm; Width: 0.094inch; Height: 1mm; Height - Seated (Max): 0.039inch; Lead Pitch: 1.45mm; Depth: 2.5mm; Radiation Hardening: No; RoHS Compliant: Yes; REACH SVHC: No SVHC; Halogen Free: Halogen Free; ComponentLink1URL: https://datasheet.ciiva.com/1043/nrh2410t6r8mn-ss-1043809.pdf?src-supplier=Digi-Key; ComponentLink1Description: https://datasheet.ciiva.com/1043/nrh2410t6r8mn-ss-1043809.pdf?src-supplier=Digi-Key; ComponentLink2URL: https://datasheet.ciiva.com/8502/nrh2410t6r8mn-ss-8502817.pdf?src-supplier=Avnet; ComponentLink2Description: https://datasheet.ciiva.com/8502/nrh2410t6r8mn-ss-8502817.pdf?src-supplier=Avnet; ComponentLink3URL: https://datasheet.ciiva.com/25606/0900766b810b3cd2-25606903.pdf?src-supplier=RSComponents; ComponentLink3Description: https://datasheet.ciiva.com/25606/0900766b810b3cd2-25606903.pdf?src-supplier=RSComponents
footprint NRH2410T6R8MN
pins: 1, 2

## NX3DV221GM,115
designator *
Analog Switch Single SPDT 10-Pin XQFN T/R

## NX3DV221GM,115 (2)
designator U?, comment USB Switch
Analog Switch Single SPDT 10-Pin XQFN T/R; Manufacturer: NXP Semiconductors; Manufacturer Part Number: NX3DV221GM,115; Number of Inputs: 2; Number of Outputs: 4; Number of Channels: 1; Min Supply Voltage: 2.3V; Operating Supply Voltage: 3V; Max Supply Voltage: 3.6V; On-State Resistance: 7R; Operating Supply Current: 10nA; Power Dissipation: 250mW; Polarity: Non-Inverting; High Level Output Current: 120mA; Supplier 1: Mouser; RoHS: Yes; Category: Decoders and Multiplexers; Stock 1: 3680; Pricing 1: 1=0,98000, 10=0,85800, 50=0,85800, 100=0,65800, 1000=0,49100, 10000=0,49000 (USD); Mount: Surface Mount; Number of Pins: 10; Min Operating Temperature: -40°C; Max Operating Temperature: 85°C; Packaging: Tape and Reel; Package Quantity: 5000; Throw Configuration: SPDT; Supply Type: Single; Low Level Output Current: 120mA; Max Power Dissipation: 250mW; Series: -; Radiation Hardening: No; Lead Free: Lead Free; ComponentLink1URL: https://datasheet.ciiva.com/6637/nx3dv221-6637624.pdf?src-supplier=Digi-Key; ComponentLink1Description: https://datasheet.ciiva.com/6637/nx3dv221-6637624.pdf?src-supplier=Digi-Key; ComponentLink2URL: https://datasheet.ciiva.com/11581/nx3dv221-11581020.pdf?src-supplier=Avnet; ComponentLink2Description: https://datasheet.ciiva.com/11581/nx3dv221-11581020.pdf?src-supplier=Avnet; Supplier Part Number 1: 771-NX3DV221GM115
footprint NX3DV221GM115
pins: 1 1D+, 2 1D-, 3 2D+, 4 2D-, 5 GND, 6 ~{OE}, 7 D-, 8 D+, 9 S, 10 VCC

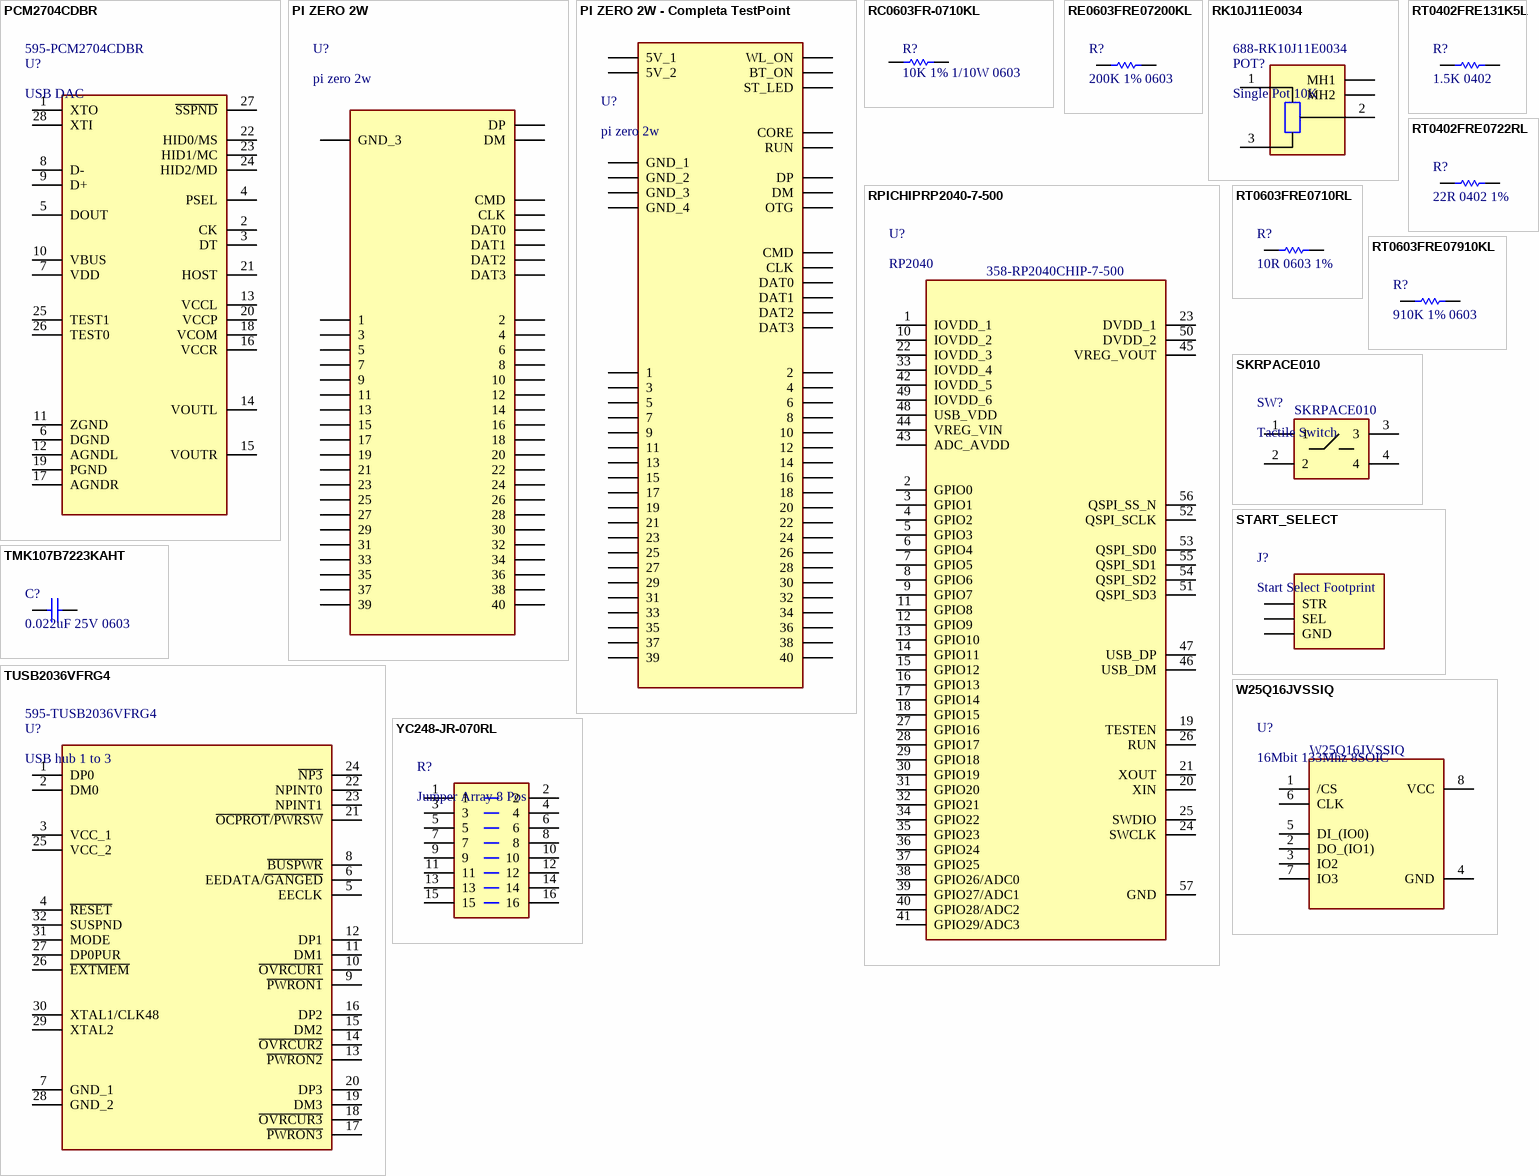
[diagram p1: symbols PCM2704CDBR to YC248-JR-070RL]

## PCM2704CDBR
designator U?, comment USB DAC  Supplier Part Number 1: 595-PCM2704CDBR
PCM2704C 98DB Snr Stereo Full Sp; Manufacturer: Texas Instruments; Manufacturer Part Number: PCM2704CDBR; Number of DAC Channels: 0; Number of Channels: 2; Max Supply Voltage: 5.25V; Min Supply Voltage: 3V; Interface: Serial,SPI,USB; Resolution: 16b; Sampling Rate: 48000S/s; Supply Type: Analog,Digital; Conversion Rate: 48KS/s; Output Type: Voltage; Operating Supply Voltage: 5V; Supplier 1: Mouser; RoHS: Yes; Category: Amplifiers - Audio; Stock 1: 1234; Pricing 1: 1=9,13000, 10=8,25000, 25=7,86000, 50=7,86000, 100=6,83000, 250=6,52000, 500=5,95000, 1000=5,57000, 2000=5,56000, 10000=5,56000 (USD); Mount: Surface Mount; Case/Package: SSOP; Number of Pins: 28; Min Operating Temperature: -25°C; Max Operating Temperature: 85°C; Packaging: Tape and Reel; Package Quantity: 2000; Number of Converters: 2; Signal to Noise Ratio (SNR): 98dB; Number of Analog Inputs: 0; Number of Analog Outputs: 2; Series: PCM2704C; Radiation Hardening: No; Lead Free: Lead Free; RoHS Compliant: Yes; ComponentLink1URL: https://datasheet.ciiva.com/1825/pcm2704c-1825851.pdf?src-supplier=Digi-Key; ComponentLink1Description: https://datasheet.ciiva.com/1825/pcm2704c-1825851.pdf?src-supplier=Digi-Key; ComponentLink2URL: https://datasheet.ciiva.com/1825/pcm2704c-1825852.pdf?src-supplier=Digi-Key; ComponentLink2Description: https://datasheet.ciiva.com/1825/pcm2704c-1825852.pdf?src-supplier=Digi-Key; ComponentLink3URL: https://datasheet.ciiva.com/1825/pcm2704c-1825853.pdf?src-supplier=Digi-Key; ComponentLink3Description: https://datasheet.ciiva.com/1825/pcm2704c-1825853.pdf?src-supplier=Digi-Key
footprint SOP65P780X200-28N
pins: 1 XTO, 2 CK, 3 DT, 4 PSEL, 5 DOUT, 6 DGND, 7 VDD, 8 D-, 9 D+, 10 VBUS, 11 ZGND, 12 AGNDL, 13 VCCL, 14 VOUTL, 15 VOUTR, 16 VCCR, 17 AGNDR, 18 VCOM, 19 PGND, 20 VCCP, 21 HOST, 22 HID0/MS, 23 HID1/MC, 24 HID2/MD, 25 TEST1, 26 TEST0, 27 ~{SSPND}, 28 XTI

## PI ZERO 2W
designator U?, comment pi zero 2w
Comprar los pogo 575-906015  x 60 y los de los tornillos x4 710-9774025151R
footprint Pi 2 Zero W - Release
pins: 1, 2, 3, 4, 5, 6, 7, 8, 9, 10, 11, 12, 13, 14, 15, 16, 17, 18, 19, 20, 21, 22, 23, 24, 25, 26, 27, 28, 29, 30, 31, 32, 33, 34, 35, 36, 37, 38, 39, 40, CLK, CMD, DAT0, DAT1, DAT2, DAT3, DM, DP, GND_3

## PI ZERO 2W - Completa TestPoint
designator U?, comment pi zero 2w
Comprar los pogo 575-906015  x 60 y los de los tornillos x4 710-9774025151R
footprint Pi 2 Zero W
pins: 1, 2, 3, 4, 5, 5V_1, 5V_2, 6, 7, 8, 9, 10, 11, 12, 13, 14, 15, 16, 17, 18, 19, 20, 21, 22, 23, 24, 25, 26, 27, 28, 29, 30, 31, 32, 33, 34, 35, 36, 37, 38, 39, 40, BT_ON, CLK, CMD, CORE, DAT0, DAT1, DAT2, DAT3, DM, DP, GND_1, GND_2, GND_3, GND_4, OTG, RUN, ST_LED, WL_ON

## RC0603FR-0710KL
designator R?, comment 10K 1% 1/10W 0603
RES SMD 10K OHM 1% 1/10W 0603; Manufacturer: Yageo; Manufacturer Part Number: RC0603FR-0710KL; Power (Watts): 0.1W, 1/10W; Temperature Coefficient: ±100ppm/°C; Supplier 1: Digi-Key; RoHS: RoHS Compliant; Category: Resistors; Stock 1: 47851285; Pricing 1: 1=0.08, 10=0.013, 100=0.005, 1000=0.00224, 2500=0.00195 (EUR); Packaging: Cut Tape (CT); Part Status: Active; Tolerance: ±1%; Composition: Thick Film; Features: Moisture Resistant; Operating Temperature: -55°C ~ 155°C; Package / Case: 0603 (1608 Metric); Supplier Device Package: 0603; Size / Dimension: 0.063" L x 0.032" W (1.60mm x 0.80mm); Height - Seated (Max): 0.022" (0.55mm); Failure Rate: -; ComponentLink1URL: http://www.yageo.com/documents/recent/PYu-RC_Group_51_RoHS_L_8.pdf; ComponentLink1Description: http://www.yageo.com/documents/recent/PYu-RC_Group_51_RoHS_L_8.pdf; Supplier Part Number 1: 311-10.0KHRCT-ND
footprint R 0603/1608
pins: 1, 2

## RE0603FRE07200KL
designator R?, comment 200K 1% 0603
Res Thick Film 0603 200K Ohm 1% 1/10W ±50ppm/°C Molded SMD Paper T/R; Manufacturer: Yageo; Manufacturer Part Number: RE0603FRE07200KL; Resistance: 200kR; Max Power Dissipation: 100mW; Supplier 1: Mouser; RoHS: Yes; Category: Chip SMD Resistors; Stock 1: 23235; Pricing 1: 1=0,10000, 10=0,03700, 50=0,03700, 100=0,01500, 1000=0,00700, 10000=0,00500 (USD); Case/Package: 0603; Min Operating Temperature: -55°C; Max Operating Temperature: 155°C; Packaging: Tape and Reel; Resistor Type: Thick Film; Number of Terminations: 2; Tolerance: 1%; Temperature Coefficient: 50ppm/°C; Features: Moisture Resistant; Length: 0.063inch; Width: 0.032inch; Height: 0.022inch; RoHS Compliant: Yes; ComponentLink1URL: http://www.yageo.com/NewPortal/yageodocoutput?fileName=/pdf/R-Chip/PYu-RE_105_RoHS_L_4.pdf&src-supplier=Digi-Key; ComponentLink1Description: http://www.yageo.com/NewPortal/yageodocoutput?fileName=/pdf/R-Chip/PYu-RE_105_RoHS_L_4.pdf&src-supplier=Digi-Key; Supplier Part Number 1: 603-RE0603FRE07200KL
footprint R 0603/1608
pins: 1, 2

## RK10J11E0034
designator POT?, comment Single Pot 10K  Supplier Part Number 1: 688-RK10J11E0034
Res POT 10K Ohm 30% 3/100W 1(Elec)/1(Mech)Turn (14 X 13 X 3.8mm) Pin Thru-Hole; Manufacturer: Alps Electric; Manufacturer Part Number: RK10J11E0034; Resistance: 10kR; Voltage Rating (AC): 50V; Voltage Rating (DC): 20V; Number of Turns: 1; Supplier 1: Mouser; RoHS: Yes; Category: Variable Resistors and Potentiometers; Stock 1: 188; Pricing 1: 1=2,50000, 10=2,20000, 50=2,20000, 100=1,82000, 1000=1,29000, 10000=1,07000 (USD); Mount: Through Hole; Min Operating Temperature: -10°C; Max Operating Temperature: 60°C; Tolerance: 30%; Packaging: Tray; Package Quantity: 10; Taper: Linear; Termination: Pin; Resistor Type: Potentiometer; Type: Potentiometer; Series: RK10J; Length: 14mm; Depth: 13mm; Radiation Hardening: No; Military Standard: Not; RoHS Compliant: Yes; ComponentLink1URL: https://datasheet.ciiva.com/26939/getdatasheetpartid-664944-26939906.pdf?src-supplier=Verical; ComponentLink1Description: https://datasheet.ciiva.com/26939/getdatasheetpartid-664944-26939906.pdf?src-supplier=Verical
footprint RK10J11E0034
pins: 1, 2, 3, MH1, MH2

## RPICHIPRP2040-7-500
designator U?, comment RP2040  Supplier Part Number 1: 358-RP2040CHIP-7-500
RP2040 Raspberry pi Dual core M0; Manufacturer Part Number: RPICHIPRP2040-7-500; Supplier 1: Mouser; Manufacturer: Raspberry Pi; RoHS: No; Category: Uncategorized; Stock 1: 12140; Pricing 1: 1=1,25000, 10=1,25000, 50=1,25000, 100=1,25000, 1000=1,25000, 10000=1,25000 (USD)
footprint QFN40P700X700X90-57N-D
pins: 1 IOVDD_1, 2 GPIO0, 3 GPIO1, 4 GPIO2, 5 GPIO3, 6 GPIO4, 7 GPIO5, 8 GPIO6, 9 GPIO7, 10 IOVDD_2, 11 GPIO8, 12 GPIO9, 13 GPIO10, 14 GPIO11, 15 GPIO12, 16 GPIO13, 17 GPIO14, 18 GPIO15, 19 TESTEN, 20 XIN, 21 XOUT, 22 IOVDD_3, 23 DVDD_1, 24 SWCLK, 25 SWDIO, 26 RUN, 27 GPIO16, 28 GPIO17, 29 GPIO18, 30 GPIO19, 31 GPIO20, 32 GPIO21, 33 IOVDD_4, 34 GPIO22, 35 GPIO23, 36 GPIO24, 37 GPIO25, 38 GPIO26/ADC0, 39 GPIO27/ADC1, 40 GPIO28/ADC2, 41 GPIO29/ADC3, 42 IOVDD_5, 43 ADC_AVDD, 44 VREG_VIN, 45 VREG_VOUT, 46 USB_DM, 47 USB_DP, 48 USB_VDD, 49 IOVDD_6, 50 DVDD_2, 51 QSPI_SD3, 52 QSPI_SCLK, 53 QSPI_SD0, 54 QSPI_SD2, 55 QSPI_SD1, 56 QSPI_SS_N, 57 GND

## RT0402FRE131K5L
designator R?, comment 1.5K 0402
High Precision-High Stability Chip Resistor Thin Film 0402 1.5kOhm 1% Paper T/R; Manufacturer: Yageo; Manufacturer Part Number: RT0402FRE131K5L; Supplier 1: Mouser; RoHS: Yes; Category: Chip SMD Resistors; Stock 1: 26018; Pricing 1: 1=0,10000, 10=0,07000, 50=0,07000, 100=0,02900, 1000=0,01300, 10000=0,00800 (USD); RoHS Compliant: Yes; Supplier Part Number 1: 603-RT0402FRE131K5L
footprint R 0402/1005
pins: 1, 2

## RT0402FRE0722RL
designator R?, comment 22R 0402 1%
Fixed Resistor, Thin Film, 0.0625W, 22ohm, 50V, 1% +/-Tol, 50ppm/Cel, Surface Mount, 0402; Manufacturer: Yageo; Manufacturer Part Number: RT0402FRE0722RL; Power Rating: 62.5mW; Max Power Dissipation: 63mW; Temperature Coefficient: 50ppm/°C; Supplier 1: Mouser; RoHS: Yes; Category: Chip SMD Resistors; Stock 1: 45945; Pricing 1: 1=0,10000, 10=0,07000, 50=0,07000, 100=0,02900, 1000=0,01300, 10000=0,00700 (USD); Case/Package: 0402; Case Code (Metric): 1005; Case Code (Imperial): 0402; Contact Plating: Tin,Matte; Min Operating Temperature: -55°C; Max Operating Temperature: 125°C; Resistance: 22R; Tolerance: 1%; Packaging: Tape and Reel; Package Quantity: 10000; Voltage Rating: 50V; Resistor Type: Thin Film; Number of Terminations: 2; Termination: SMD/SMT; Voltage Rating (DC): 50V; Length: 0.039inch; Width: 0.02inch; Height: 0.014inch; Depth: 0.5mm; Radiation Hardening: No; Military Standard: Not; Lead Free: Lead Free; ComponentLink1URL: https://datasheet.ciiva.com/2561/pyu-rt-1-to-0-05-rohs-l-5-2561595.pdf?src-supplier=Digi-Key; ComponentLink1Description: https://datasheet.ciiva.com/2561/pyu-rt-1-to-0-05-rohs-l-5-2561595.pdf?src-supplier=Digi-Key; ComponentLink2URL: https://datasheet.ciiva.com/8890/pyu-rt-1-to-0-05-rohs-l-4-8890173.pdf?src-supplier=Avnet; ComponentLink2Description: https://datasheet.ciiva.com/8890/pyu-rt-1-to-0-05-rohs-l-4-8890173.pdf?src-supplier=Avnet; ComponentLink3URL: https://datasheet.ciiva.com/12706/pyu-rt-1-to-0-05-rohs-l-4-12706671.pdf?src-supplier=Mouser; ComponentLink3Description: https://datasheet.ciiva.com/12706/pyu-rt-1-to-0-05-rohs-l-4-12706671.pdf?src-supplier=Mouser; Supplier Part Number 1: 603-RT0402FRE0722RL
footprint R 0402/1005
pins: 1, 2

## RT0603FRE0710RL
designator R?, comment 10R 0603 1%
High Precision-High Stability Chip Resistor Thin Film 0603 10Ohm 1% Paper T/R; Manufacturer: Yageo; Manufacturer Part Number: RT0603FRE0710RL; Power Rating: 100mW; Voltage Rating: 75V; Temperature Coefficient: 50ppm/°C; Supplier 1: Mouser; RoHS: Yes; Category: Chip SMD Resistors; Stock 1: 38412; Pricing 1: 1=0,10000, 10=0,06200, 50=0,06200, 100=0,02500, 1000=0,01200, 10000=0,00800 (USD); Case/Package: 0603; Number of Pins: 2; Case Code (Metric): 1608; Case Code (Imperial): 0603; Contact Plating: Tin,Lead; Min Operating Temperature: -55°C; Max Operating Temperature: 125°C; Tolerance: 1%; Resistance: 10R; Packaging: Tape and Reel; Package Quantity: 5000; Resistor Type: Thin Film; Number of Terminations: 2; Termination: SMD/SMT; Max Power Dissipation: 100mW; Voltage Rating (DC): 75V; Features: Moisture Resistant; Series: RT; Construction: Rectangular; Resistance Tolerance: 1%; Length: 1.6mm; Width: 0.031inch; Height: 0.022inch; Depth: 0.8mm; REACH SVHC: Unknown; Military Standard: Not; Lead Free: Lead Free; RoHS Compliant: Yes; ComponentLink1URL: https://datasheet.ciiva.com/12834/pyu-rt-1-to-0-05-rohs-l-4-12834894.pdf?src-supplier=Mouser; ComponentLink1Description: https://datasheet.ciiva.com/12834/pyu-rt-1-to-0-05-rohs-l-4-12834894.pdf?src-supplier=Mouser; ComponentLink2URL: https://datasheet.ciiva.com/2559/pyu-rt-1-to-0-05-rohs-l-5-2559486.pdf?src-supplier=Digi-Key; ComponentLink2Description: https://datasheet.ciiva.com/2559/pyu-rt-1-to-0-05-rohs-l-5-2559486.pdf?src-supplier=Digi-Key; Supplier Part Number 1: 603-RT0603FRE0710RL
footprint R 0603/1608
pins: 1, 2

## RT0603FRE07910KL
designator R?, comment 910K 1% 0603
High Precision-High Stability Chip Resistor Thin Film 0603 910kOhm 1% Paper T/R; Manufacturer: Yageo; Manufacturer Part Number: RT0603FRE07910KL; Supplier 1: Mouser; RoHS: Yes; Category: Chip SMD Resistors; Stock 1: 4473; Pricing 1: 1=0,10000, 10=0,07000, 50=0,07000, 100=0,02900, 1000=0,01300, 10000=0,00800 (USD); RoHS Compliant: Yes; Supplier Part Number 1: 603-RT0603FRE07910KL
footprint R 0603/1608
pins: 1, 2